# Altium footprint library standard-case.PcbLib: 36 footprints (part 2 of 3)
Each footprint in its own frame and in the unit in brackets; x right, y up, seen from the top. Pads: shape width x height; smd on the part's side, far side on the other; paste and mask are expansions set on the pad; w line width, h text height; cw(c..) or ccw(c..) is an arc to the next point about the centre after c.
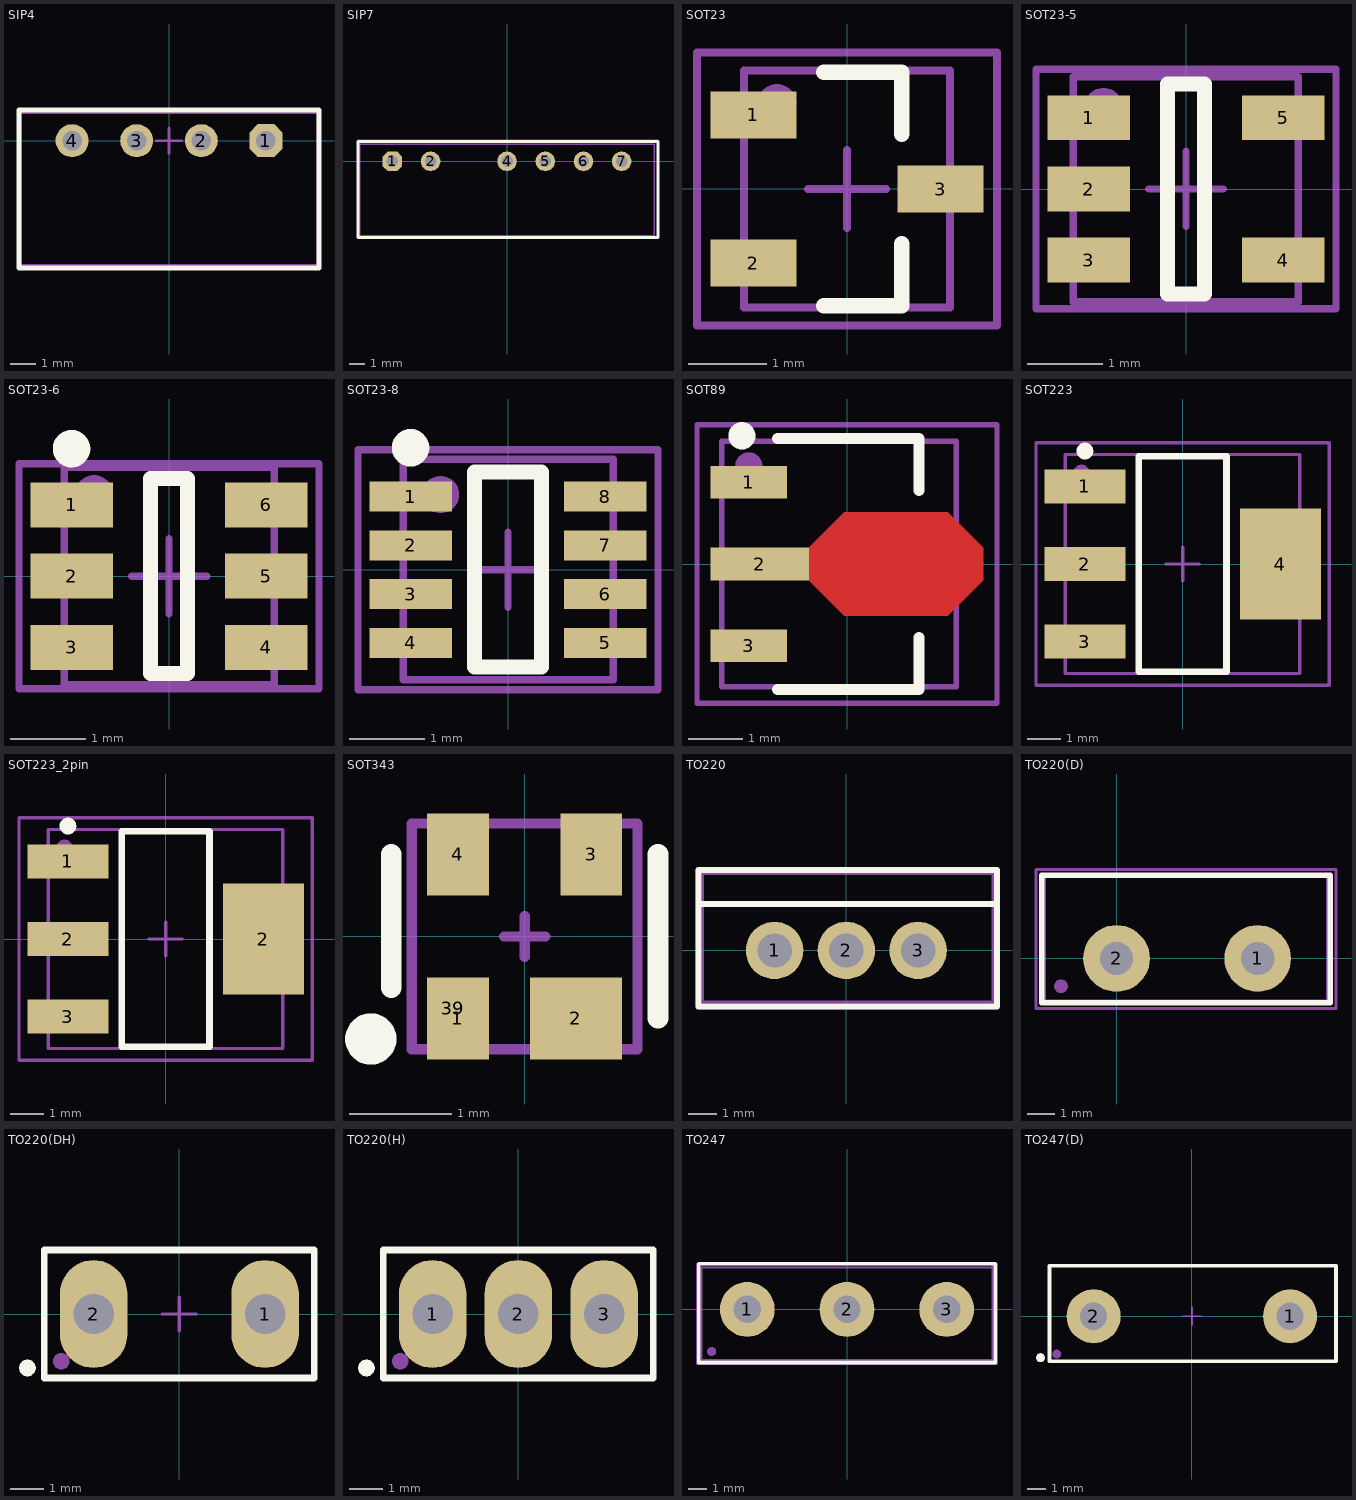
[diagram p1: the footprints below, top view; thin cyan lines are the x and y axes]

## SIP4 [mm]
height 15
pads (4):
  oct 1.3x1.3 hole 0.762: 1(3.81,0)
  round 1.3 hole 0.762: 2(1.27,0) 3(-1.27,0) 4(-3.81,0)
Top Overlay:
  lines w0.2: -5.9,-5 -5.9,1.2 5.9,1.2 5.9,-5 -5.9,-5
Mechanical 1:
  lines w0.1: -5.842,-4.9 -5.842,1.1 5.842,1.1 5.842,-4.9 -5.842,-4.9
Mechanical 15:
  lines w0.1: -0.5,0 0.5,0 ; 0,-0.5 0,0.5 ; -5.9,-5 5.9,-5 5.9,1.2 -5.9,1.2 -5.9,-5
3D body "P6AU.STEP": height 10, standoff -3, extent -5.84,-4.905 5.84,1.095

## SIP7 [mm]
height 15
pads (6):
  oct 1.3x1.3 hole 0.762: 1(-7.62,0)
  round 1.3 hole 0.762: 2(-5.08,0) 4(0,0) 5(2.54,0) 6(5.08,0) 7(7.62,0)
Top Overlay:
  lines w0.2: -9.906,-5.08 10.033,-5.08 10.033,1.3 -9.906,1.3 -9.906,-5.08
Mechanical 1:
  lines w0.1: -9.779,-4.953 9.779,-4.953 9.779,1.143 -9.779,1.143 -9.779,-4.953
Mechanical 15:
  lines w0.1: -0.5,0 0.5,0 ; 0,-0.5 0,0.5 ; -9.906,-5.08 -9.906,1.397 10.033,1.397 10.033,-5.08 -9.906,-5.08
3D body "SIP-7(124567).STEP": height 10, standoff -2.5, extent -9.72,-4.9 9.78,1.15

## SOT23 [mm]
height 1.1
pads (4):
  rect 1.1x0.6 smd: 1(-1.2,0.95) 2(-1.2,-0.95) 3(1.2,0)
  round 0.5 on Mech1: ""(-0.9,1.1)
Top Overlay:
  lines w0.2: -0.3,-1.5 0.7,-1.5 0.7,-0.7 ; -0.3,1.5 0.7,1.5 0.7,0.7
Mechanical 1:
  lines w0.1: -1.32,-1.52 1.32,-1.52 1.32,1.52 -1.32,1.52 -1.32,-1.52
Mechanical 15:
  lines w0.1: -0.5,0 0.5,0 ; 0,-0.5 0,0.5 ; -1.925,-1.75 -1.925,1.75 1.925,1.75 1.925,-1.75 -1.925,-1.75
3D body "SOT95P237X112-3N.step": height 1.12, standoff 0, extent -1.32,-1.52 1.32,1.52

## SOT23-5 [mm] "pitch 0.95 mm"
height 1.45
pads (6):
  rect 1.1x0.6 smd: 1(-1.3,0.95) 2(-1.3,0) 3(-1.3,-0.95) 4(1.3,-0.95) 5(1.3,0.95)
  round 0.5 on Mech1: ""(-1.1,1.1)
Top Overlay:
  lines w0.2: -0.25,-1.4 -0.25,1.4 0.25,1.4 0.25,-1.4 -0.25,-1.4
Mechanical 1:
  lines w0.1: -1.5,-1.5 1.5,-1.5 1.5,1.5 -1.5,1.5 -1.5,-1.5
Mechanical 15:
  lines w0.1: -0.5,0 0.5,0 ; 0,-0.5 0,0.5 ; -2,-1.6 2,-1.6 2,1.6 -2,1.6 -2,-1.6
3D body "SOT23-5-1.step": height 1.3, standoff 0, extent -1.5,-1.5 1.5,1.5

## SOT23-6 [mm] "pitch 0.95 mm"
height 1.1
pads (7):
  rect 1.1x0.6 smd: 1(-1.3,0.95) 2(-1.3,0) 3(-1.3,-0.95) 4(1.3,-0.95) 5(1.3,0) 6(1.3,0.95)
  round 0.5 on Mech1: ""(-1,1.1)
Top Overlay:
  circle w0.25: c-1.3,1.7 r0.125
  lines w0.2: -0.25,-1.3 -0.25,1.3 0.25,1.3 0.25,-1.3 -0.25,-1.3
Mechanical 1:
  lines w0.1: -1.4,-1.45 1.4,-1.45 1.4,1.45 -1.4,1.45 -1.4,-1.45
Mechanical 15:
  lines w0.1: -0.5,0 0.5,0 ; 0,-0.5 0,0.5 ; -2,-1.5 2,-1.5 2,1.5 -2,1.5 -2,-1.5
3D body "User Library-SOT23-6-2.STEP": height 1.45, standoff 0, extent -1.4,-1.45 1.4,1.45

## SOT23-8 [mm] "pitch 0.95 mm"
height 1.45
pads (9):
  rect 1.1x0.4 smd: 1(-1.3,0.975) 2(-1.3,0.325) 3(-1.3,-0.325) 4(-1.3,-0.975) 5(1.3,-0.975) 6(1.3,-0.325) 7(1.3,0.325) 8(1.3,0.975)
  round 0.5 on Mech1: ""(-0.9,1)
Top Overlay:
  circle w0.25: c-1.3,1.625 r0.125
  lines w0.2: -0.45,-1.3 0.45,-1.3 0.45,1.3 -0.45,1.3 -0.45,-1.3
Mechanical 1:
  lines w0.1: -1.4,-1.47 1.4,-1.47 1.4,1.47 -1.4,1.47 -1.4,-1.47
Mechanical 15:
  lines w0.1: -0.5,0 0.5,0 ; 0,-0.5 0,0.5 ; -2,-1.6 2,-1.6 2,1.6 -2,1.6 -2,-1.6
3D body "User Library-sot238.STEP": height 1.2, standoff 0, extent -1.4,-1.495 1.4,1.445

## SOT89 [mm]
height 1.6
pads (4):
  rect 1.4x0.6 smd: 1(-1.8,1.5) 3(-1.8,-1.5)
  rect 1.8x0.6 smd: 2(-1.6,0)
  round 0.5 on Mech1: ""(-1.8,1.8)
Top Layer:
  region: -0.7,0.3 -0.05,0.95 1.85,0.95 2.5,0.3 2.5,-0.3 1.85,-0.95 -0.05,-0.95 -0.7,-0.3
Top Overlay:
  circle w0.25: c-1.927,2.35 r0.125
  lines w0.2: -1.278,-2.3 1.322,-2.3 1.322,-1.35 ; -1.278,2.3 1.322,2.3 1.322,1.35
Mechanical 1:
  lines w0.1: -2.3,-2.25 -2.3,2.25 2,2.25 2,-2.25 -2.3,-2.25
Mechanical 15:
  lines w0.1: -0.477,0 0.523,0 ; 0.022,-0.5 0.022,0.5 ; -2.75,-2.55 2.75,-2.55 2.75,2.55 -2.75,2.55 -2.75,-2.55
3D body "SOT-89.step": height 1.51, standoff 0, extent -2.3,-2.25 2,2.25

## SOT223 [mm] "SOT223, 4-Leads, Body 6,50x7,00mm (avg), Pitch 2,30mm, IPC Medium Density"
height 1.8
pads (5):
  rect 2.4x1 smd: 1(-2.9,2.3) 2(-2.9,0) 3(-2.9,-2.3)
  rect 2.4x3.3 smd: 4(2.9,0)
  round 0.5 on Mech1: ""(-3,2.7)
Top Overlay:
  circle w0.25: c-2.9,3.35 r0.125
  lines w0.2: -1.3,-3.2 -1.3,3.2 1.3,3.2 1.3,-3.2 -1.3,-3.2
Mechanical 1:
  lines w0.1: -3.48,-3.25 3.48,-3.25 3.48,3.25 -3.48,3.25 -3.48,-3.25
Mechanical 15:
  lines w0.1: -0.5,0 0.5,0 ; 0,-0.5 0,0.5 ; -4.35,-3.6 -4.35,3.6 4.35,3.6 4.35,-3.6 -4.35,-3.6
3D body "SOT-223-3.step": height 1.65, standoff -0.03, extent -3.48,-3.25 3.48,3.25

## SOT223_2pin [mm] "SOT223, 4-Leads, Body 6,50x7,00mm (avg), Pitch 2,30mm, IPC Medium Density"
height 1.8
pads (5):
  rect 2.4x1 smd: 1(-2.9,2.3) 2(-2.9,0) 3(-2.9,-2.3)
  rect 2.4x3.3 smd: 2(2.9,0)
  round 0.5 on Mech1: ""(-3,2.7)
Top Overlay:
  circle w0.25: c-2.9,3.35 r0.125
  lines w0.2: -1.3,-3.2 1.3,-3.2 1.3,3.2 -1.3,3.2 -1.3,-3.2
Mechanical 1:
  lines w0.1: -3.48,-3.25 -3.48,3.25 3.48,3.25 3.48,-3.25 -3.48,-3.25
Mechanical 15:
  lines w0.1: -0.5,0 0.5,0 ; 0,-0.5 0,0.5 ; -4.35,-3.6 4.35,-3.6 4.35,3.6 -4.35,3.6 -4.35,-3.6
3D body "SOT-223-3.step": height 1.65, standoff -0.03, extent -3.48,-3.25 3.48,3.25

## SOT343 [mm]
height 0.9
pads (5):
  rect 0.6x0.8 smd: 1(-0.65,-0.8) 3(0.65,0.8) 4(-0.65,0.8)
  rect 0.9x0.8 smd: 2(0.5,-0.8)
  round 0.5 on Mech1: 39(-0.7,-0.7)
Top Overlay:
  circle w0.25: c-1.5,-1 r0.125
  lines w0.2: -1.3,-0.5 -1.3,0.8 ; 1.3,-0.8 1.3,0.8
Mechanical 1:
  lines w0.1: -1.1,-1.1 -1.1,1.1 1.1,1.1 1.1,-1.1 -1.1,-1.1
Mechanical 15:
  lines w0.1: -0.2,0 0.2,0 ; 0,-0.2 0,0.2 ; -1.1,-1.1 -1.1,1.1 1.1,1.1 1.1,-1.1 -1.1,-1.1
3D body "User Library-SOT343-1.STEP": height 1, standoff 0, extent -1.1,-1.1 1.1,1.1

## TO220 [mm]
height 22
pads (3):
  round 2 hole 1.2: 1(-2.5,0) 2(0,0) 3(2.5,0)
Top Overlay:
  lines w0.2: -5.15,1.619 5.247,1.619 ; -5.15,-1.95 -5.15,2.8 5.247,2.8 5.247,-1.95 -5.15,-1.95
Mechanical 1:
  lines w0.1: -5,1.6 5.1,1.6 ; -5,-1.8 5.1,-1.8 5.1,2.675 -5,2.675 -5,-1.8
Mechanical 15:
  lines w0.1: -0.5,0 0.5,0 ; 0,-0.5 0,0.5 ; -5.2,-2 -5.2,2.8 5.247,2.8 5.247,-2 -5.2,-2
3D body "User Library-TO-220-4.STEP": height 22.06, standoff -6.74, extent -5,-1.8 5.2,2.7

## TO220(D) [mm]
pads (3):
  round 2.4 hole 1.2: 1(5.08,0) 2(0,0)
  round 0.5 on Mech1: ""(-2,-1)
Top Overlay:
  lines w0.2: -2.7,-1.6 7.7,-1.6 7.7,3 -2.7,3 -2.7,-1.6
Mechanical 1:
  lines w0.1: -2.59,-1.533 7.59,-1.533 7.59,2.977 -2.59,2.977 -2.59,-1.533
Mechanical 15:
  lines w0.1: -2.9,-1.8 -2.9,3.2 7.9,3.2 7.9,-1.8 -2.9,-1.8
3D body "TO-220FPAC.stp": height 21.15, standoff -8.45, extent -2.59,-1.533 7.59,2.977

## TO220(DH) [mm]
pads (4):
  oval 2x3.2 hole 1.2: 1(2.54,0) 2(-2.54,0)
  round 0.5 on Top Overlay: ""(-4.5,-1.6)
  round 0.5 on Mech1: ""(-3.5,-1.4)
Top Overlay:
  lines w0.2: -4,-1.9 -4,1.9 4,1.9 4,-1.9 -4,-1.9
Mechanical 1:
  lines w0.1: -4,-1.9 4,-1.9 4,1.9 -4,1.9 -4,-1.9
Mechanical 15:
  lines w0.1: -0.5,0 0.5,0 ; 0,-0.5 0,0.5
3D body "TO220-2-90.STEP": height 5.98, standoff -8, extent -5.08,-0.225 5.08,21.665

## TO220(H) [mm]
height 22
pads (5):
  oval 2x3.2 hole 1.2: 1(-2.54,0) 2(0,0) 3(2.54,0)
  round 0.5 on Top Overlay: ""(-4.5,-1.6)
  round 0.5 on Mech1: ""(-3.5,-1.4)
Top Overlay:
  lines w0.2: -4,-1.9 -4,1.9 4,1.9 4,-1.9 -4,-1.9
Mechanical 1:
  lines w0.1: -4,-1.9 4,-1.9 4,1.9 -4,1.9 -4,-1.9
Mechanical 15:
  lines w0.1: -0.5,0 0.5,0 ; 0,-0.5 0,0.5
3D body "TO-220-90.STEP": height 2.76, standoff -7.91, extent -4.95,-0.365 4.95,20.665

## TO247 [mm] "3-Lead Plastic TO-247"
height 20
pads (4):
  round 3 hole 1.5: 1(-5.45,0) 2(0,0) 3(5.45,0)
  round 0.5 on Mech1: ""(-7.4,-2.3)
Top Overlay:
  lines w0.2: -8.1,-2.9 8.1,-2.9 8.1,2.5 -8.1,2.5 -8.1,-2.9
Mechanical 1:
  lines w0.1: -7.95,2.3 7.9,2.3 7.95,2.35 7.95,-2.75 -7.95,-2.75 -7.95,2.3 ; -7.95,2.3 -7.95,2.3
Mechanical 15:
  lines w0.1: -0.5,0 0.5,0 ; 0,-0.5 0,0.5 ; -8.2,-3 -8.2,2.5 8.2,2.5 8.2,-3 -8.2,-3
3D body "TO247_3_21.STEP": height 26.95, standoff -2.47, extent -7.95,-2.75 7.95,2.35

## TO247(D) [mm] "3-Lead Plastic TO-247"
height 20
pads (4):
  round 3 hole 1.5: 1(5.45,0) 2(-5.45,0)
  round 0.5 on Top Overlay: ""(-8.4,-2.3)
  round 0.5 on Mech1: ""(-7.5,-2.1)
Top Overlay:
  lines w0.2: -7.9,-2.5 -7.9,2.8 8,2.8 8,-2.5 -7.9,-2.5
Mechanical 1:
  lines w0.1: -7.9,-2.5 -7.9,2.8 8,2.8 8,-2.5 -7.9,-2.5
Mechanical 15:
  lines w0.1: -0.5,0 0.5,0 ; 0,-0.5 0,0.5 ; -7.9,-2.5 8,-2.5 8,2.8 -7.9,2.8 -7.9,-2.5
3D body "User Library-User Library-TO-247_NO_CENTER_LEAD.STEP": height 30.5, standoff -5.9, extent -7.95,-2.5 7.95,2.81